# Altium schematic symbol library THD 4000 Series Components.SchLib: 125 symbols (part 1 of 3)
Pins are listed as number, name and electrical type; pins without a type are passive.

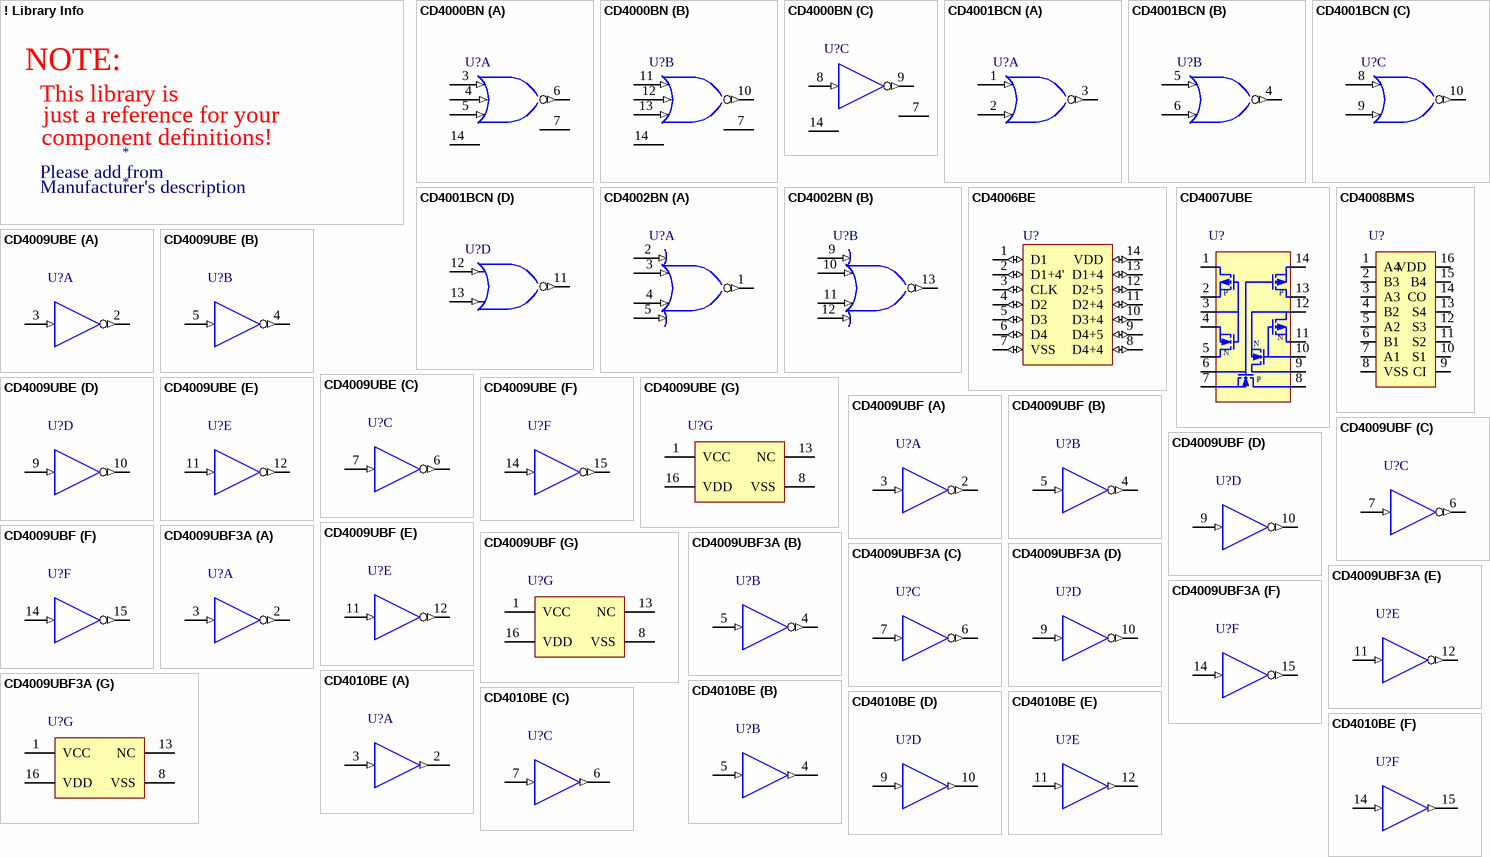
[diagram p0: symbols ! Library Info to CD4010BE]

## ! Library Info
designator *
text: NOTE:; This library is; just a reference for your; component definitions!; Please add from; Manufacturer's description

## CD4000BN
designator U?
Dual 3-Input NOR Gate Plus Inverter Buffered B series Gate, 14-Pin DIP; IC_Technology: C; Published: 17-Jul-2002; LatestRevisionDate: 13-Apr-2006; LatestRevisionNote: IPC-7351 Footprint Added.; DatasheetVersion: Jan-1999; PackageVersion: 2000; PackageReference: M14A; Publisher: Altium Limited; PackageDescription: 14-Pin Small Outline Integrated Circuit 1.27 mm Pitch; Code_IPC: SOIC127P600-14; ComponentLink1Description: Manufacturer Link; ComponentLink1URL: http://www.fairchildsemi.com/; ComponentLink2Description: Datasheet; ComponentLink2URL: http://www.fairchildsemi.com/ds/CD%2FCD4001BC.pdf
footprint DIP-14
pins on every part: 7 GND (power) hidden to GND, 14 VDD (power) hidden to VDD
part A pins: 3 A (in), 4 B (in), 5 C (in), 6 H (out)
part B pins: 10 K (out), 11 D (in), 12 E (in), 13 F (in)
part C pins: 8 G (in), 9 L (out)

## CD4001BCN
designator U?
Quad 2-Input NOR Buffered B series Gate, 14-Pin DIP; IC_Technology: C; Published: 17-Jul-2002; LatestRevisionDate: 29-May-2009; LatestRevisionNote: Component Body Added.; DatasheetVersion: Jan-1999; PackageVersion: 2000; PackageReference: N14A; Publisher: Altium Limited; PackageDescription: DIP, 14-Pin, Row Spacing 7.62 mm, Pitch 2.54 mm; ComponentLink1Description: Manufacturer Link; ComponentLink1URL: http://www.fairchildsemi.com/; ComponentLink2Description: Datasheet; ComponentLink2URL: http://www.fairchildsemi.com/ds/CD%2FCD4001BC.pdf
footprint DIP-14
pins on every part: 7 GND (power) hidden to GND, 14 VDD (power) hidden to VDD
part A pins: 1 A (in), 2 B (in), 3 J (out)
part B pins: 4 J (out), 5 A (in), 6 B (in)
part C pins: 8 A (in), 9 B (in), 10 J (out)
part D pins: 11 J (out), 12 A (in), 13 B (in)

## CD4002BN
designator U?
Dual 4-Input NOR Gate; Note: Pins 6 and 8 are not connected and not drawn.; Published: 8-Jun-2000; LatestRevisionDate: 06-Jun-2005; LatestRevisionNote: Stylized 3D Model Added.; DatasheetVersion: Sep-1988; PackageVersion: Jan-1997; PackageReference: DIP14; Publisher: Altium Limited; PackageDescription: DIP; 14 Leads; Row Spacing 7.62 mm; Pitch 2.54 mm; ComponentLink1Description: Manufacturer Link; ComponentLink1URL: http://www.st.com/; ComponentLink2Description: Datasheet; ComponentLink2URL: http://www.st.com/stonline/products/literature/ds/8099/hcf4002.pdf
footprint DIP-14
pins on every part: 7 GND (power) hidden to GND, 14 VDD (power) hidden to VDD
part A pins: 1 J (out), 2 A (in), 3 B (in), 4 C (in), 5 D (in)
part B pins: 9 E (in), 10 F (in), 11 G (in), 12 H (in), 13 K (out)

## CD4006BE
designator U?  (value not drawn)
CMOS 18-Stage Static Shift Register 14-CDIP -55 to 125; MF: Texas Instruments; MP: CD4006BF3A; Availability: Bad; Price: 12.97 USD; Package: CDIP-14 Texas Instruments; Value: *
footprint DIP-14
pins: 1 D1 (io), 2 D1+4' (io), 3 CLK (io), 4 D2 (io), 5 D3 (io), 6 D4 (io), 7 VSS (io), 8 D4+4 (io), 9 D4+5 (io), 10 D3+4 (io), 11 D2+4 (io), 12 D2+5 (io), 13 D1+4 (io), 14 VDD (io)

## CD4007UBE
designator U?
CMOS Dual Complementary Pair Plus Inverter. DIP-14
footprint DIP-14
pins: 1 3, 2 4, 3, 4 3, 5, 6, 7, 8, 9, 10, 11, 12, 13, 14
text: P; N

## CD4008BMS
designator U?
4-Bit Full Adder
footprint DIP16-300 (DIP, Molded; 16 Leads; Row Spacing 7.62 mm; Pitch 2.54 mm)
pins: 1 A4, 2 B3, 3 A3, 4 B2, 5 A2, 6 B1, 7 A1, 8 VSS, 9 CI, 10 S1, 11 S2, 12 S3, 13 S4, 14 CO, 15 B4, 16 VDD

## CD4009UBE
designator U?
CMOS Hex Inverting Buffer/Converter, N0016A, TUBE; Generic Part Number: CD4009UB; Manufacturer: Texas Instruments; PartNumber: CD4009UBE; VCC(Max)(V): 18; VCC(Min)(V): 3; ICC @ Nom Voltage(Max)(mA): 0.03; Bits(#): 8; F @ Nom Voltage(Max)(Mhz): 12; Rating: Catalog; Technology Family: CD4000; Voltage(Nom)(V): 5; Schmitt Trigger: No; Output Drive (IOL/IOH)(Max)(mA): -1.6/4; tpd @ Nom Voltage(Max)(ns): 140; DatasheetVersion: SCHS020C; PackageReference: N0016A; Output Type: CMOS; Input Type: CMOS; Operating Temperature Range(C): -55 to 125; ComponentLink1Description: Manufacturer URL; ComponentLink1URL: http://www.ti.com/; ComponentLink2Description: Datasheet; ComponentLink2URL: http://www.ti.com/lit/ds/symlink/cd4009ub.pdf; ComponentLink3Description: Package Specification; ComponentLink3URL: http://www.ti.com/lit/ml/mpdi002c/mpdi002c.pdf
footprint DIP16-300 (DIP, Molded; 16 Leads; Row Spacing 7.62 mm; Pitch 2.54 mm)
part A pins: 2 ~{A} (out), 3 A (in)
part B pins: 4 ~{B} (out), 5 B (in)
part C pins: 6 ~{C} (out), 7 C (in)
part D pins: 9 D (in), 10 ~{D} (out)
part E pins: 11 E (in), 12 ~{E} (out)
part F pins: 14 F (in), 15 ~{F} (out)
part G pins: 1 VCC (power), 8 VSS (power), 13 NC, 16 VDD

## CD4009UBF
designator U?
CMOS Hex Inverting Buffer/Converter, J0016A, TUBE; Generic Part Number: CD4009UB-MIL; Manufacturer: Texas Instruments; PartNumber: CD4009UBF; VCC(Max)(V): 18; VCC(Min)(V): 3; ICC @ Nom Voltage(Max)(mA): 0.03; Bits(#): 6; F @ Nom Voltage(Max)(Mhz): 12; Rating: Military; Technology Family: CD4000; Voltage(Nom)(V): 5; Schmitt Trigger: No; Output Drive (IOL/IOH)(Max)(mA): -1.6/4; tpd @ Nom Voltage(Max)(ns): 140; DatasheetVersion: SCHS020C; PackageReference: J0016A; Output Type: CMOS; Input Type: CMOS; Operating Temperature Range(C): -55 to 125; ComponentLink1Description: Manufacturer URL; ComponentLink1URL: http://www.ti.com/; ComponentLink2Description: Datasheet; ComponentLink2URL: http://www.ti.com/lit/ds/symlink/cd4009ub-mil.pdf; ComponentLink3Description: Package Specification; ComponentLink3URL: http://www.ti.com/lit/ml/mcer002d/mcer002d.pdf
footprint DIP16-300 (DIP, Molded; 16 Leads; Row Spacing 7.62 mm; Pitch 2.54 mm)
part A pins: 2 G=~{A} (out), 3 A (in)
part B pins: 4 H=~{B} (out), 5 B (in)
part C pins: 6 I=~{C} (out), 7 C (in)
part D pins: 9 D (in), 10 J=~{D} (out)
part E pins: 11 E (in), 12 K=~{E} (out)
part F pins: 14 F (in), 15 L=~{F} (out)
part G pins: 1 VCC (power), 8 VSS (power), 13 NC, 16 VDD

## CD4009UBF3A
designator U?
CMOS Hex Inverting Buffer/Converter, J0016A, TUBE; Generic Part Number: CD4009UB-MIL; Manufacturer: Texas Instruments; PartNumber: CD4009UBF3A; VCC(Max)(V): 18; VCC(Min)(V): 3; ICC @ Nom Voltage(Max)(mA): 0.03; Bits(#): 6; F @ Nom Voltage(Max)(Mhz): 12; Rating: Military; Technology Family: CD4000; Voltage(Nom)(V): 5; Schmitt Trigger: No; Output Drive (IOL/IOH)(Max)(mA): -1.6/4; tpd @ Nom Voltage(Max)(ns): 140; DatasheetVersion: SCHS020C; PackageReference: J0016A; Output Type: CMOS; Input Type: CMOS; Operating Temperature Range(C): -55 to 125; ComponentLink1Description: Manufacturer URL; ComponentLink1URL: http://www.ti.com/; ComponentLink2Description: Datasheet; ComponentLink2URL: http://www.ti.com/lit/ds/symlink/cd4009ub-mil.pdf; ComponentLink3Description: Package Specification; ComponentLink3URL: http://www.ti.com/lit/ml/mcer002d/mcer002d.pdf
footprint DIP16-300 (DIP, Molded; 16 Leads; Row Spacing 7.62 mm; Pitch 2.54 mm)
part A pins: 2 G=~{A} (out), 3 A (in)
part B pins: 4 H=~{B} (out), 5 B (in)
part C pins: 6 I=~{C} (out), 7 C (in)
part D pins: 9 D (in), 10 J=~{D} (out)
part E pins: 11 E (in), 12 K=~{E} (out)
part F pins: 14 F (in), 15 L=~{F} (out)
part G pins: 1 VCC (power), 8 VSS (power), 13 NC, 16 VDD

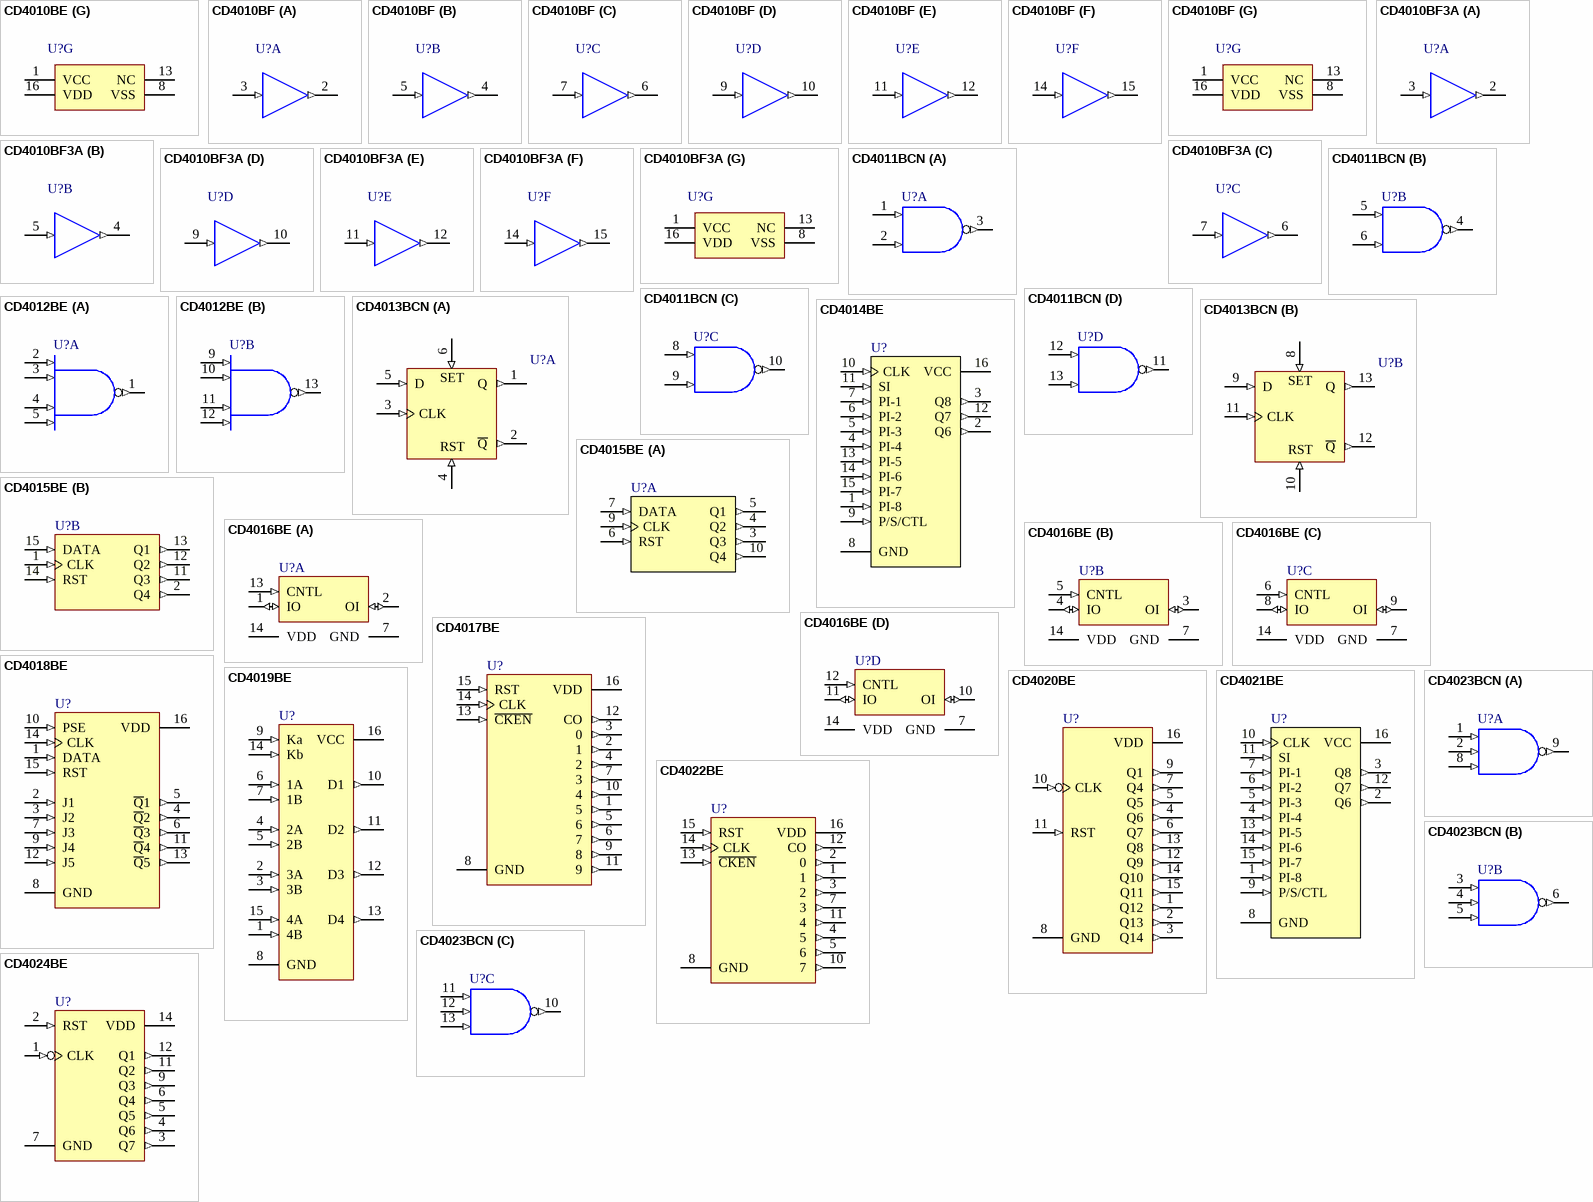
[diagram p1: symbols CD4010BE to CD4024BE]

## CD4010BE
designator U?
CMOS Hex Non-Inverting Buffer/Converter, N0016A, TUBE; Generic Part Number: CD4010B; Manufacturer: Texas Instruments; PartNumber: CD4010BE; VCC(Min)(V): 3; VCC(Max)(V): 18; ICC @ Nom Voltage(Max)(mA): 0.06; Bits(#): 6; F @ Nom Voltage(Max)(Mhz): 8; Rating: Catalog; Voltage(Nom)(V): 10; tpd @ Nom Voltage(Max)(ns): 200; DatasheetVersion: SCHS020C; PackageReference: N0016A; Output Type: CMOS; Input Type: CMOS; Operating Temperature Range(C): -55 to 125; Code_JEDEC: MS-001; ComponentLink1Description: Manufacturer URL; ComponentLink1URL: http://www.ti.com/; ComponentLink2Description: Datasheet; ComponentLink2URL: http://www.ti.com/lit/ds/symlink/cd4010b.pdf; ComponentLink3Description: Package Specification; ComponentLink3URL: http://www.ti.com/lit/ml/mpdi002c/mpdi002c.pdf
footprint DIP16-300 (DIP, Molded; 16 Leads; Row Spacing 7.62 mm; Pitch 2.54 mm)
part A pins: 2 G (out), 3 A (in)
part B pins: 4 H (out), 5 B (in)
part C pins: 6 I (out), 7 C (in)
part D pins: 9 D (in), 10 J (out)
part E pins: 11 E (in), 12 K (out)
part F pins: 14 F (in), 15 L (out)
part G pins: 1 VCC (power), 8 VSS (power), 13 NC, 16 VDD (power)

## CD4010BF
designator U?
CMOS Hex Non-Inverting Buffer/Converter, J0016A, TUBE; Generic Part Number: CD4010B-MIL; Manufacturer: Texas Instruments; PartNumber: CD4010BF; VCC(Min)(V): 3; VCC(Max)(V): 18; ICC @ Nom Voltage(Max)(mA): 0.06; F @ Nom Voltage(Max)(Mhz): 8; Rating: Military; Voltage(Nom)(V): 10; tpd @ Nom Voltage(Max)(ns): 200; DatasheetVersion: SCHS020C; PackageReference: J0016A; Output Type: CMOS; Input Type: CMOS; Operating Temperature Range(C): -55 to 125; ComponentLink1Description: Manufacturer URL; ComponentLink1URL: http://www.ti.com/; ComponentLink2Description: Datasheet; ComponentLink2URL: http://www.ti.com/lit/ds/symlink/cd4010b-mil.pdf; ComponentLink3Description: Package Specification; ComponentLink3URL: http://www.ti.com/lit/ml/mcer002d/mcer002d.pdf
footprint DIP16-300 (DIP, Molded; 16 Leads; Row Spacing 7.62 mm; Pitch 2.54 mm)
part A pins: 2 G (out), 3 A (in)
part B pins: 4 H (out), 5 B (in)
part C pins: 6 I (out), 7 C (in)
part D pins: 9 D (in), 10 J (out)
part E pins: 11 E (in), 12 K (out)
part F pins: 14 F (in), 15 L (out)
part G pins: 1 VCC (power), 8 VSS (power), 13 NC, 16 VDD (power)

## CD4010BF3A
designator U?
CMOS Hex Non-Inverting Buffer/Converter, J0016A, TUBE; Generic Part Number: CD4010B-MIL; Manufacturer: Texas Instruments; PartNumber: CD4010BF3A; VCC(Min)(V): 3; VCC(Max)(V): 18; ICC @ Nom Voltage(Max)(mA): 0.06; F @ Nom Voltage(Max)(Mhz): 8; Rating: Military; Voltage(Nom)(V): 10; tpd @ Nom Voltage(Max)(ns): 200; DatasheetVersion: SCHS020C; PackageReference: J0016A; Output Type: CMOS; Input Type: CMOS; Operating Temperature Range(C): -55 to 125; ComponentLink1Description: Manufacturer URL; ComponentLink1URL: http://www.ti.com/; ComponentLink2Description: Datasheet; ComponentLink2URL: http://www.ti.com/lit/ds/symlink/cd4010b-mil.pdf; ComponentLink3Description: Package Specification; ComponentLink3URL: http://www.ti.com/lit/ml/mcer002d/mcer002d.pdf
footprint DIP16-300 (DIP, Molded; 16 Leads; Row Spacing 7.62 mm; Pitch 2.54 mm)
part A pins: 2 G (out), 3 A (in)
part B pins: 4 H (out), 5 B (in)
part C pins: 6 I (out), 7 C (in)
part D pins: 9 D (in), 10 J (out)
part E pins: 11 E (in), 12 K (out)
part F pins: 14 F (in), 15 L (out)
part G pins: 1 VCC (power), 8 VSS (power), 13 NC, 16 VDD (power)

## CD4011BCN
designator U?
Quad 2-Input NAND Buffered B series Gate, 14-Pin PDIP; IC_Technology: C; Published: 17-Jul-2002; LatestRevisionDate: 29-May-2009; LatestRevisionNote: Component Body Added.; DatasheetVersion: Jan-1999; PackageVersion: 2000; PackageReference: N14A; Publisher: Altium Limited; PackageDescription: DIP, 14-Pin, Row Spacing 7.62 mm, Pitch 2.54 mm; ComponentLink1Description: Manufacturer Link; ComponentLink1URL: http://www.fairchildsemi.com/; ComponentLink2Description: Datasheet; ComponentLink2URL: http://www.fairchildsemi.com/ds/CD%2FCD4001BC.pdf
footprint DIP-14
pins on every part: 7 GND (power) hidden to GND, 14 VDD (power) hidden to VDD
part A pins: 1 A (in), 2 B (in), 3 J (out)
part B pins: 4 J (out), 5 A (in), 6 B (in)
part C pins: 8 A (in), 9 F (in), 10 J (out)
part D pins: 11 J (out), 12 A (in), 13 B (in)

## CD4012BE
designator U?
Dual 4-Input NAND Gate, 14-Pin SOP, Commerical Grade; IC_Technology: AC; Note: Pins 3 and 11 are NC & not drawn.; Published: 17-Jul-2002; LatestRevisionDate: 13-Apr-2006; LatestRevisionNote: IPC-7351 Footprint Added.; DatasheetVersion: Nov-1999; PackageVersion: 2000; PackageReference: M14D; Publisher: Altium Limited; PackageDescription: 14-Pin Small Outline Package 1.27 mm Pitch; ComponentLink1Description: Manufacturer Link; ComponentLink1URL: http://www.fairchildsemi.com/; ComponentLink2Description: Datasheet; ComponentLink2URL: http://www.fairchildsemi.com/ds/74%2F74AC20.pdf
footprint DIP-14
pins on every part: 7 GND (power) hidden to GND, 14 VDD (power) hidden to VCC
part A pins: 1 ~{O} (out), 2 A (in), 3 B (in), 4 C (in), 5 D (in)
part B pins: 9 A (in), 10 B (in), 11 C (in), 12 D (in), 13 ~{O} (out)

## CD4013BCN
designator U?
Dual D-Type Flip-Flop; Published: 17-Jul-2002; LatestRevisionDate: 29-May-2009; LatestRevisionNote: Component Body Added.; DatasheetVersion: Jan-1999; PackageVersion: 2000; PackageReference: N14A; Publisher: Altium Limited; PackageDescription: DIP, 14-Pin, Row Spacing 7.62 mm, Pitch 2.54 mm; ComponentLink1Description: Manufacturer Link; ComponentLink1URL: http://www.fairchildsemi.com/
footprint DIP-14
pins on every part: 7 GND (power) hidden to GND, 14 VDD (power) hidden to VDD
part A pins: 1 Q (out), 2 ~{Q} (out), 3 CLK (in), 4 RST (in), 5 D (in), 6 S (in)
part B pins: 8 S (in), 9 D (in), 10 RST (in), 11 CLK (in), 12 ~{Q} (out), 13 Q (out)
part A text: SET
part B text: SET

## CD4014BE
designator U?
CMOS 8-Stage Static Shift Register. Synchronous Parallel or Serial Input/Serial Output; Published: 8-Jun-2000; LatestRevisionDate: 06-Jun-2005; LatestRevisionNote: Stylized 3D Model Added.; DatasheetVersion: Nov-1996; PackageVersion: Apr-1996; PackageReference: DIP16; Publisher: Altium Limited; PackageDescription: DIP; 16 Leads; Row Spacing 7.62 mm; Pitch 2.54 mm; ComponentLink1Description: Manufacturer Link; ComponentLink1URL: http://www.st.com/
footprint DIP16-300 (DIP, Molded; 16 Leads; Row Spacing 7.62 mm; Pitch 2.54 mm)
pins: 1 PI-8 (in), 2 Q6 (out), 3 Q8 (out), 4 PI-4 (in), 5 PI-3 (in), 6 PI-2 (in), 7 PI-1 (in), 8 GND (power), 9 P/S/CTL (in), 10 CLK (in), 11 SI (in), 12 Q7 (out), 13 PI-5 (in), 14 PI-6 (in), 15 PI-7 (in), 16 VCC (power)

## CD4015BE
designator U?
Dual 4-Stage Static Shift Register with Serial Input/Parallel Output; Published: 8-Jun-2000; LatestRevisionDate: 06-Jun-2005; LatestRevisionNote: Stylized 3D Model Added.; DatasheetVersion: Jun-1989; PackageVersion: Apr-1996; PackageReference: DIP16; Publisher: Altium Limited; PackageDescription: DIP; 16 Leads; Row Spacing 7.62 mm; Pitch 2.54 mm; ComponentLink1Description: Manufacturer Link; ComponentLink1URL: http://www.st.com/
footprint DIP16-300 (DIP, Molded; 16 Leads; Row Spacing 7.62 mm; Pitch 2.54 mm)
pins on every part: 8 GND (power) hidden to GND, 16 VCC (power) hidden to VCC
part A pins: 3 Q3 (out), 4 Q2 (out), 5 Q1 (out), 6 RST (in), 7 DATA (in), 9 CLK (in), 10 Q4 (out)
part B pins: 1 CLK (in), 2 Q4 (out), 11 Q3 (out), 12 Q2 (out), 13 Q1 (out), 14 RST (in), 15 DATA (in)

## CD4016BE
designator U?
Quad Bilateral Switch; Published: 8-Jun-2000; LatestRevisionDate: 04-Mar-2005; LatestRevisionNote: Stylized 3D Model Added.; DatasheetVersion: Jun-1989; PackageVersion: Jan-1997; PackageReference: DIP14; Publisher: Altium Limited; PackageDescription: DIP; 14 Leads; Row Spacing 7.62 mm; Pitch 2.54 mm; ComponentLink1Description: Manufacturer Link; ComponentLink1URL: http://www.st.com/; ComponentLink2Description: Datasheet; ComponentLink2URL: http://www.st.com/stonline/products/literature/ds/2027/hcf4016.pdf
footprint DIP-14
pins on every part: 7 GND (power) hidden to GND, 14 VDD (power) hidden to VDD
part A pins: 1 IO (io), 2 OI (io), 13 CNTL (in)
part B pins: 3 OI (io), 4 IO (io), 5 CNTL (in)
part C pins: 6 CNTL (in), 8 IO (io), 9 OI (io)
part D pins: 10 OI (io), 11 IO (io), 12 CNTL (in)

## CD4017BE
designator U?
Decade Counter with 10 Decoded Outputs; Published: 8-Jun-2000; LatestRevisionDate: 06-Jun-2005; LatestRevisionNote: Stylized 3D Model Added.; DatasheetVersion: Jun-1989; PackageVersion: Apr-1996; PackageReference: DIP16; Publisher: Altium Limited; PackageDescription: DIP; 16 Leads; Row Spacing 7.62 mm; Pitch 2.54 mm; ComponentLink1Description: Manufacturer Link; ComponentLink1URL: http://www.st.com/
footprint DIP16-300 (DIP, Molded; 16 Leads; Row Spacing 7.62 mm; Pitch 2.54 mm)
pins: 1 5 (out), 2 1 (out), 3 0 (out), 4 2 (out), 5 6 (out), 6 7 (out), 7 3 (out), 8 GND (power), 9 8 (out), 10 4 (out), 11 9 (out), 12 CO (out), 13 ~{CKEN} (in), 14 CLK (in), 15 RST (in), 16 VDD (power)

## CD4018BE
designator U?
Presettable Divide-By-N Counter; Published: 8-Jun-2000; LatestRevisionDate: 06-Jun-2005; LatestRevisionNote: Stylized 3D Model Added.; DatasheetVersion: Jun-1989; PackageVersion: Apr-1996; PackageReference: DIP16; Publisher: Altium Limited; PackageDescription: DIP; 16 Leads; Row Spacing 7.62 mm; Pitch 2.54 mm; ComponentLink1Description: Manufacturer Link; ComponentLink1URL: http://www.st.com/
footprint DIP16-300 (DIP, Molded; 16 Leads; Row Spacing 7.62 mm; Pitch 2.54 mm)
pins: 1 DATA (in), 2 J1 (in), 3 J2 (in), 4 ~{Q}2 (out), 5 ~{Q}1 (out), 6 ~{Q}3 (out), 7 J3 (in), 8 GND (power), 9 J4 (in), 10 PSE (in), 11 ~{Q}4 (out), 12 J5 (in), 13 ~{Q}5 (out), 14 CLK (in), 15 RST (in), 16 VDD (power)

## CD4019BE
designator U?
Quad AND/OR Select Gate; Published: 8-Jun-2000; LatestRevisionDate: 06-Jun-2005; LatestRevisionNote: Stylized 3D Model Added.; DatasheetVersion: Jun-1989; PackageVersion: Apr-1996; PackageReference: DIP16; Publisher: Altium Limited; PackageDescription: DIP; 16 Leads; Row Spacing 7.62 mm; Pitch 2.54 mm; ComponentLink1Description: Manufacturer Link; ComponentLink1URL: http://www.st.com/
footprint DIP16-300 (DIP, Molded; 16 Leads; Row Spacing 7.62 mm; Pitch 2.54 mm)
pins: 1 4B (in), 2 3A (in), 3 3B (in), 4 2A (in), 5 2B (in), 6 1A (in), 7 1B (in), 8 GND (power), 9 Ka (in), 10 D1 (out), 11 D2 (out), 12 D3 (out), 13 D4 (out), 14 Kb (in), 15 4A (in), 16 VCC (power)

## CD4020BE
designator U?
14-Stage Ripple-Carry Binary Counter/Divider; Published: 8-Jun-2000; LatestRevisionDate: 06-Jun-2005; LatestRevisionNote: Stylized 3D Model Added.; DatasheetVersion: Mar-1989; PackageVersion: Apr-1996; PackageReference: DIP16; Publisher: Altium Limited; PackageDescription: DIP; 16 Leads; Row Spacing 7.62 mm; Pitch 2.54 mm; ComponentLink1Description: Manufacturer Link; ComponentLink1URL: http://www.st.com/
footprint DIP16-300 (DIP, Molded; 16 Leads; Row Spacing 7.62 mm; Pitch 2.54 mm)
pins: 1 Q12 (out), 2 Q13 (out), 3 Q14 (out), 4 Q6 (out), 5 Q5 (out), 6 Q7 (out), 7 Q4 (out), 8 GND (power), 9 Q1 (out), 10 CLK (in), 11 RST (in), 12 Q9 (out), 13 Q8 (out), 14 Q10 (out), 15 Q11 (out), 16 VDD (power)

## CD4021BE
designator U?
CMOS 8-Stage Static Shift Register. Asynchronous Parallel or Synchronous Serial Input/Serial Output; Published: 8-Jun-2000; LatestRevisionDate: 06-Jun-2005; LatestRevisionNote: Stylized 3D Model Added.; DatasheetVersion: Nov-1996; PackageVersion: Apr-1996; PackageReference: DIP16; Publisher: Altium Limited; PackageDescription: DIP; 16 Leads; Row Spacing 7.62 mm; Pitch 2.54 mm; ComponentLink1Description: Manufacturer Link; ComponentLink1URL: http://www.st.com/
footprint DIP16-300 (DIP, Molded; 16 Leads; Row Spacing 7.62 mm; Pitch 2.54 mm)
pins: 1 PI-8 (in), 2 Q6 (out), 3 Q8 (out), 4 PI-4 (in), 5 PI-3 (in), 6 PI-2 (in), 7 PI-1 (in), 8 GND (power), 9 P/S/CTL (in), 10 CLK (in), 11 SI (in), 12 Q7 (out), 13 PI-5 (in), 14 PI-6 (in), 15 PI-7 (in), 16 VCC (power)

## CD4022BE
designator U?
Divide by 8 Counter/Divider with 8 Decoded Outputs; Note: Pins 6 and 9 are not connected and not drawn.; Published: 8-Jun-2000; LatestRevisionDate: 06-Jun-2005; LatestRevisionNote: Stylized 3D Model Added.; DatasheetVersion: Jun-1989; PackageVersion: Apr-1996; PackageReference: DIP16; Publisher: Altium Limited; PackageDescription: DIP; 16 Leads; Row Spacing 7.62 mm; Pitch 2.54 mm; ComponentLink1Description: Manufacturer Link; ComponentLink1URL: http://www.st.com/
footprint DIP16-300 (DIP, Molded; 16 Leads; Row Spacing 7.62 mm; Pitch 2.54 mm)
pins: 1 (out), 2 0 (out), 3 2 (out), 4 5 (out), 5 6 (out), 7 3 (out), 8 GND (power), 10 7 (out), 11 4 (out), 12 CO (out), 13 ~{CKEN} (in), 14 CLK (in), 15 RST (in), 16 VDD (power)

## CD4023BCN
designator U?
Buffered Triple 3-Input NAND Gate, 14-Pin PDIP; IC_Technology: C; Published: 17-Jul-2002; LatestRevisionDate: 29-May-2009; LatestRevisionNote: Component Body Added.; DatasheetVersion: Jun-1999; PackageVersion: 2000; PackageReference: N14A; Publisher: Altium Limited; PackageDescription: DIP, 14-Pin, Row Spacing 7.62 mm, Pitch 2.54 mm; ComponentLink1Description: Manufacturer Link; ComponentLink1URL: http://www.fairchildsemi.com/; ComponentLink2Description: Datasheet; ComponentLink2URL: http://www.fairchildsemi.com/ds/CD%2FCD4023BC.pdf
footprint DIP-14
pins on every part: 7 GND (power) hidden to GND, 14 VDD (power) hidden to VDD
part A pins: 1 A (in), 2 B (in), 8 C (in), 9 J (out)
part B pins: 3 A (in), 4 B (in), 5 C (in), 6 J (out)
part C pins: 10 J (out), 11 A (in), 12 B (in), 13 C (in)

## CD4024BE
designator U?
7-Stage Ripple-Carry Binary Counter/Divider; Note: Pins 8, 10 and 13 are not connected and not drawn.; Published: 8-Jun-2000; LatestRevisionDate: 06-Jun-2005; LatestRevisionNote: Stylized 3D Model Added.; DatasheetVersion: Mar-1989; PackageVersion: Apr-1996; PackageReference: DIP16; Publisher: Altium Limited; PackageDescription: DIP; 16 Leads; Row Spacing 7.62 mm; Pitch 2.54 mm; ComponentLink1Description: Manufacturer Link; ComponentLink1URL: http://www.st.com/
footprint DIP-14
pins: 1 CLK (in), 2 RST (in), 3 Q7 (out), 4 Q6 (out), 5 Q5 (out), 6 Q4 (out), 7 GND (power), 9 Q3 (out), 11 Q2 (out), 12 Q1 (out), 14 VDD (power)

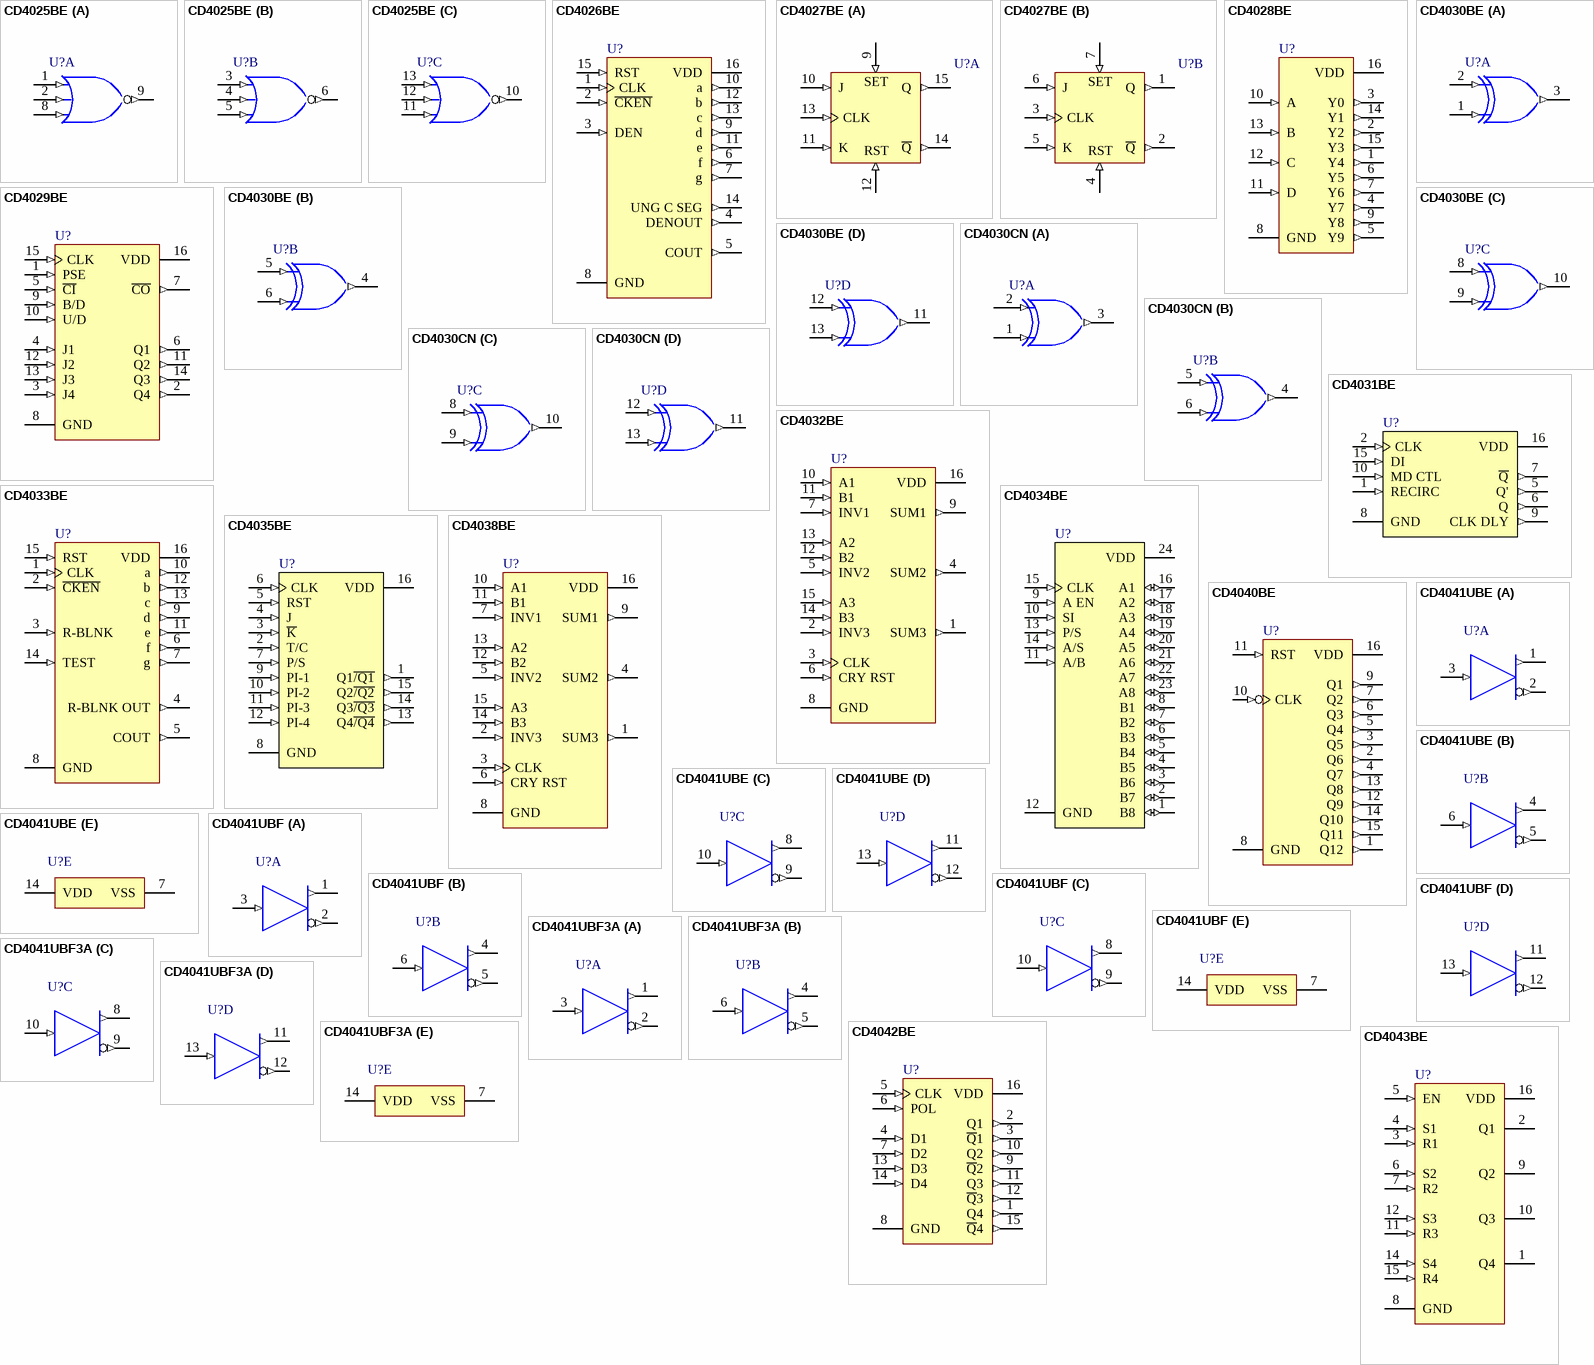
[diagram p2: symbols CD4025BE to CD4043BE]

## CD4025BE
designator U?
Triple 3-Input NOR Gate; Published: 8-Jun-2000; LatestRevisionDate: 06-Jun-2005; LatestRevisionNote: Stylized 3D Model Added.; DatasheetVersion: Sep-1988; PackageReference: CDIP14; Publisher: Altium Limited; PackageDescription: DIP; 14 Leads; Row Spacing 7.62 mm; Pitch 2.54 mm; ComponentLink1Description: Manufacturer Link; ComponentLink1URL: http://www.st.com/
footprint DIP-14
pins on every part: 7 GND (power) hidden to GND, 14 VDD (power) hidden to VDD
part A pins: 1 A (in), 2 B (in), 8 C (in), 9 J (out)
part B pins: 3 D (in), 4 E (in), 5 F (in), 6 K (out)
part C pins: 10 L (out), 11 I (in), 12 H (in), 13 G (in)

## CD4026BE
designator U?
Decade Counters/Dividers with Decoded 7-Segment Outputs And Display; Published: 8-Jun-2000; LatestRevisionDate: 06-Jun-2005; LatestRevisionNote: Stylized 3D Model Added.; DatasheetVersion: Jun-1989; PackageVersion: Apr-1996; PackageReference: DIP16; Publisher: Altium Limited; PackageDescription: DIP; 16 Leads; Row Spacing 7.62 mm; Pitch 2.54 mm; ComponentLink1Description: Manufacturer Link; ComponentLink1URL: http://www.st.com/
footprint DIP16-300 (DIP, Molded; 16 Leads; Row Spacing 7.62 mm; Pitch 2.54 mm)
pins: 1 CLK (in), 2 ~{CKEN} (in), 3 DEN (in), 4 DENOUT (out), 5 COUT (out), 6 f (out), 7 g (out), 8 GND (power), 9 d (out), 10 a (out), 11 e (out), 12 b (out), 13 c (out), 14 UNG C SEG (out), 15 RST (in), 16 VDD (power)

## CD4027BE
designator U?
Dual J-K Master/Slave Flip-Flop with Set and Reset; Published: 17-Jul-2002; LatestRevisionDate: 29-May-2009; LatestRevisionNote: Component Body Added.; DatasheetVersion: Jan-1999; PackageVersion: 2000; PackageReference: N16E; Publisher: Altium Limited; PackageDescription: DIP, 16-Pin, Row Spacing 7.62 mm, Pitch 2.54 mm; ComponentLink1Description: Manufacturer Link; ComponentLink1URL: http://www.fairchildsemi.com/; ComponentLink2Description: Datasheet; ComponentLink2URL: http://www.fairchildsemi.com/ds/CD%2FCD4027BC.pdf
footprint DIP16-300 (DIP, Molded; 16 Leads; Row Spacing 7.62 mm; Pitch 2.54 mm)
pins on every part: 8 GND (power) hidden to GND, 16 VDD (power) hidden to VDD
part A pins: 9 S (in), 10 J (in), 11 K (in), 12 RST (in), 13 CLK (in), 14 ~{Q} (out), 15 Q (out)
part B pins: 1 Q (out), 2 ~{Q} (out), 3 CLK (in), 4 RST (in), 5 K (in), 6 J (in), 7 S (in)
part A text: SET
part B text: SET

## CD4028BE
designator U?
BCD-to-Decimal Decoder; Published: 8-Jun-2000; LatestRevisionDate: 06-Jun-2005; LatestRevisionNote: Stylized 3D Model Added.; DatasheetVersion: Jun-1989; PackageVersion: Apr-1996; PackageReference: DIP16; Publisher: Altium Limited; PackageDescription: DIP; 16 Leads; Row Spacing 7.62 mm; Pitch 2.54 mm; ComponentLink1Description: Manufacturer Link; ComponentLink1URL: http://www.st.com/
footprint DIP16-300 (DIP, Molded; 16 Leads; Row Spacing 7.62 mm; Pitch 2.54 mm)
pins: 1 Y4 (out), 2 Y2 (out), 3 Y0 (out), 4 Y7 (out), 5 Y9 (out), 6 Y5 (out), 7 Y6 (out), 8 GND (power), 9 Y8 (out), 10 A (in), 11 D (in), 12 C (in), 13 B (in), 14 Y1 (out), 15 Y3 (out), 16 VDD (power)

## CD4029BE
designator U?
Presettable Up/Down Counter Binary or BCD Decade; Published: 8-Jun-2000; LatestRevisionDate: 06-Jun-2005; LatestRevisionNote: Stylized 3D Model Added.; DatasheetVersion: Sep-1988; PackageVersion: Apr-1996; PackageReference: DIP16; Publisher: Altium Limited; PackageDescription: DIP; 16 Leads; Row Spacing 7.62 mm; Pitch 2.54 mm; ComponentLink1Description: Manufacturer Link; ComponentLink1URL: http://www.st.com/
footprint DIP16-300 (DIP, Molded; 16 Leads; Row Spacing 7.62 mm; Pitch 2.54 mm)
pins: 1 PSE (in), 2 Q4 (out), 3 J4 (in), 4 J1 (in), 5 ~{CI} (in), 6 Q1 (out), 7 ~{CO} (out), 8 GND (power), 9 B/D (in), 10 U/D (in), 11 Q2 (out), 12 J2 (in), 13 J3 (in), 14 Q3 (out), 15 CLK (in), 16 VDD (power)

## CD4030BE
designator U?
Quad Exclusive OR Gate; Published: 8-Jun-2000; LatestRevisionDate: 06-Jun-2005; LatestRevisionNote: Stylized 3D Model Added.; DatasheetVersion: Nov-1996; PackageReference: CDIP14; Publisher: Altium Limited; PackageDescription: DIP; 14 Leads; Row Spacing 7.62 mm; Pitch 2.54 mm; ComponentLink1Description: Manufacturer Link; ComponentLink1URL: http://www.st.com/
footprint DIP-14
pins on every part: 7 GND (power) hidden to GND, 14 VDD (power) hidden to VDD
part A pins: 1 B (in), 2 A (in), 3 J (out)
part B pins: 4 K (out), 5 C (in), 6 D (in)
part C pins: 8 E (in), 9 F (in), 10 L (out)
part D pins: 11 M (out), 12 G (in), 13 H (in)

## CD4030CN
designator U?
Quad Exclusive OR Gate, 14-Pin PDIP; IC_Technology: C; Published: 17-Jul-2002; LatestRevisionDate: 29-May-2009; LatestRevisionNote: Component Body Added.; DatasheetVersion: Jan-1999; PackageVersion: 2000; PackageReference: N14A; Publisher: Altium Limited; PackageDescription: DIP, 14-Pin, Row Spacing 7.62 mm, Pitch 2.54 mm; ComponentLink1Description: Manufacturer Link; ComponentLink1URL: http://www.fairchildsemi.com/
footprint DIP-14
pins on every part: 7 GND (power) hidden to GND, 14 VDD (power) hidden to VDD
part A pins: 1 B (in), 2 A (in), 3 J (out)
part B pins: 4 J (out), 5 A (in), 6 B (in)
part C pins: 8 A (in), 9 B (in), 10 J (out)
part D pins: 11 J (out), 12 A (in), 13 B (in)

## CD4031BE
designator U?
64-Stage Static Shift Register; Note: Pins 3, 4, 11, 12, 13 and 14 are not connected and not drawn.; Published: 8-Jun-2000; LatestRevisionDate: 06-Jun-2005; LatestRevisionNote: Stylized 3D Model Added.; DatasheetVersion: Jun-1989; PackageVersion: Apr-1996; PackageReference: DIP16; Publisher: Altium Limited; PackageDescription: DIP; 16 Leads; Row Spacing 7.62 mm; Pitch 2.54 mm; ComponentLink1Description: Manufacturer Link; ComponentLink1URL: http://www.st.com/
footprint DIP16-300 (DIP, Molded; 16 Leads; Row Spacing 7.62 mm; Pitch 2.54 mm)
pins: 1 RECIRC (in), 2 CLK (in), 5 Q' (out), 6 Q (out), 7 ~{Q} (out), 8 GND (power), 9 CLK DLY (out), 10 MD CTL (in), 15 DI (in), 16 VDD (power)

## CD4032BE
designator U?
Triple Serial Adders. Positive Logic; Published: 8-Jun-2000; LatestRevisionDate: 06-Jun-2005; LatestRevisionNote: Stylized 3D Model Added.; DatasheetVersion: Jun-1989; PackageVersion: Apr-1996; PackageReference: DIP16; Publisher: Altium Limited; PackageDescription: DIP; 16 Leads; Row Spacing 7.62 mm; Pitch 2.54 mm; ComponentLink1Description: Manufacturer Link; ComponentLink1URL: http://www.st.com/
footprint DIP16-300 (DIP, Molded; 16 Leads; Row Spacing 7.62 mm; Pitch 2.54 mm)
pins: 1 SUM3 (out), 2 INV3 (in), 3 CLK (in), 4 SUM2 (out), 5 INV2 (in), 6 CRY RST (in), 7 INV1 (in), 8 GND (power), 9 SUM1 (out), 10 A1 (in), 11 B1 (in), 12 B2 (in), 13 A2 (in), 14 B3 (in), 15 A3 (in), 16 VDD (power)

## CD4033BE
designator U?
Decade Counters/Dividers with Decoded 7-Segment Outputs And Display; Published: 8-Jun-2000; LatestRevisionDate: 06-Jun-2005; LatestRevisionNote: Stylized 3D Model Added.; DatasheetVersion: Jun-1989; PackageVersion: Apr-1996; PackageReference: DIP16; Publisher: Altium Limited; PackageDescription: DIP; 16 Leads; Row Spacing 7.62 mm; Pitch 2.54 mm; ComponentLink1Description: Manufacturer Link; ComponentLink1URL: http://www.st.com/
footprint DIP16-300 (DIP, Molded; 16 Leads; Row Spacing 7.62 mm; Pitch 2.54 mm)
pins: 1 CLK (in), 2 ~{CKEN} (in), 3 R-BLNK (in), 4 R-BLNK OUT (out), 5 COUT (out), 6 f (out), 7 g (out), 8 GND (power), 9 d (out), 10 a (out), 11 e (out), 12 b (out), 13 c (out), 14 TEST (in), 15 RST (in), 16 VDD (power)

## CD4034BE
designator U?
8-Stage Static Bidirectional Parallel/Serial Input/Output Bus Register; Published: 8-Jun-2000; LatestRevisionDate: 06-Jun-2005; LatestRevisionNote: Stylized 3D Model Added.; DatasheetVersion: Jun-1989; PackageVersion: Sep-1988; PackageReference: CDIP24; Publisher: Altium Limited; PackageDescription: DIP; 24 Leads; Row Spacing 15.24 mm; Pitch 2.54 mm; ComponentLink1Description: Manufacturer Link; ComponentLink1URL: http://www.st.com/
footprint DIP-24-600 (DIP; 24 Leads; Row Spacing 15.24 mm; Pitch 2.54 mm)
pins: 1 B8 (io), 2 B7 (io), 3 B6 (io), 4 B5 (io), 5 B4 (io), 6 B3 (io), 7 B2 (io), 8 B1 (io), 9 A EN (in), 10 SI (in), 11 A/B (in), 12 GND (power), 13 P/S (in), 14 A/S (in), 15 CLK (in), 16 A1 (io), 17 A2 (io), 18 A3 (io), 19 A4 (io), 20 A5 (io), 21 A6 (io), 22 A7 (io), 23 A8 (io), 24 VDD (power)

## CD4035BE
designator U?
4-Stage Parallel In/Parallel Out Shift Register; Published: 8-Jun-2000; LatestRevisionDate: 06-Jun-2005; LatestRevisionNote: Stylized 3D Model Added.; DatasheetVersion: Jul-1989; PackageVersion: Apr-1996; PackageReference: DIP16; Publisher: Altium Limited; PackageDescription: DIP; 16 Leads; Row Spacing 7.62 mm; Pitch 2.54 mm; ComponentLink1Description: Manufacturer Link; ComponentLink1URL: http://www.st.com/
footprint DIP16-300 (DIP, Molded; 16 Leads; Row Spacing 7.62 mm; Pitch 2.54 mm)
pins: 1 Q1~{/Q1} (out), 2 T/C (in), 3 ~{K} (in), 4 J (in), 5 RST (in), 6 CLK (in), 7 P/S (in), 8 GND (power), 9 PI-1 (in), 10 PI-2 (in), 11 PI-3 (in), 12 PI-4 (in), 13 Q4~{/Q4} (out), 14 Q3~{/Q3} (out), 15 Q2~{/Q2} (out), 16 VDD (power)

## CD4038BE
designator U?
Triple Serial Adders. Negative Logic; Published: 8-Jun-2000; LatestRevisionDate: 06-Jun-2005; LatestRevisionNote: Stylized 3D Model Added.; DatasheetVersion: Jun-1989; PackageVersion: Apr-1996; PackageReference: DIP16; Publisher: Altium Limited; PackageDescription: DIP; 16 Leads; Row Spacing 7.62 mm; Pitch 2.54 mm; ComponentLink1Description: Manufacturer Link; ComponentLink1URL: http://www.st.com/
footprint DIP16-300 (DIP, Molded; 16 Leads; Row Spacing 7.62 mm; Pitch 2.54 mm)
pins: 1 SUM3 (out), 2 INV3 (in), 3 CLK (in), 4 SUM2 (out), 5 INV2 (in), 6 CRY RST (in), 7 INV1 (in), 8 GND (power), 9 SUM1 (out), 10 A1 (in), 11 B1 (in), 12 B2 (in), 13 A2 (in), 14 B3 (in), 15 A3 (in), 16 VDD (power)

## CD4040BE
designator U?
12-Stage Ripple-Carry Binary Counter/Divider; Published: 8-Jun-2000; LatestRevisionDate: 06-Jun-2005; LatestRevisionNote: Stylized 3D Model Added.; DatasheetVersion: Mar-1989; PackageVersion: Apr-1996; PackageReference: DIP16; Publisher: Altium Limited; PackageDescription: DIP; 16 Leads; Row Spacing 7.62 mm; Pitch 2.54 mm; ComponentLink1Description: Manufacturer Link; ComponentLink1URL: http://www.st.com/
footprint DIP16-300 (DIP, Molded; 16 Leads; Row Spacing 7.62 mm; Pitch 2.54 mm)
pins: 1 Q12 (out), 2 Q6 (out), 3 Q5 (out), 4 Q7 (out), 5 Q4 (out), 6 Q3 (out), 7 Q2 (out), 8 GND (power), 9 Q1 (out), 10 CLK (in), 11 RST (in), 12 Q9 (out), 13 Q8 (out), 14 Q10 (out), 15 Q11 (out), 16 VDD (power)

## CD4041UBE
designator U?
CMOS Quad True/Complement Buffer, N0014A, TUBE; Generic Part Number: CD4041UB; Manufacturer: Texas Instruments; PartNumber: CD4041UBE; VCC(Min)(V): 3; VCC(Max)(V): 18; ICC @ Nom Voltage(Max)(mA): 0.06; Bits(#): 4; F @ Nom Voltage(Max)(Mhz): 8; Rating: Catalog; Voltage(Nom)(V): 10; tpd @ Nom Voltage(Max)(ns): 120; DatasheetVersion: SCHS039C; PackageReference: N0014A; Output Type: CMOS; Input Type: CMOS; Operating Temperature Range(C): -55 to 125; Code_JEDEC: MS-001; ComponentLink1Description: Manufacturer URL; ComponentLink1URL: http://www.ti.com/; ComponentLink2Description: Datasheet; ComponentLink2URL: http://www.ti.com/lit/ds/symlink/cd4041ub.pdf; ComponentLink3Description: Package Specification; ComponentLink3URL: http://www.ti.com/lit/ml/mpdi002c/mpdi002c.pdf
footprint DIP-14
part A pins: 1 E (out), 2 F (out), 3 A (in)
part B pins: 4 G (out), 5 H (out), 6 B (in)
part C pins: 8 K (out), 9 L (out), 10 C (in)
part D pins: 11 M (out), 12 N (out), 13 D (in)
part E pins: 7 VSS (power), 14 VDD (power)

## CD4041UBF
designator U?
CMOS Quad True/Complement Buffer, J0014A, TUBE; Generic Part Number: CD4041UB-MIL; Manufacturer: Texas Instruments; PartNumber: CD4041UBF; VCC(Min)(V): 3; VCC(Max)(V): 18; ICC @ Nom Voltage(Max)(mA): 0.06; Bits(#): 4; F @ Nom Voltage(Max)(Mhz): 8; Rating: Military; Voltage(Nom)(V): 10; tpd @ Nom Voltage(Max)(ns): 120; DatasheetVersion: SCHS039C; PackageReference: J0014A; Output Type: CMOS; Operating Temperature Range(C): -55 to 125; ComponentLink1Description: Manufacturer URL; ComponentLink1URL: http://www.ti.com/; ComponentLink2Description: Datasheet; ComponentLink2URL: http://www.ti.com/lit/ds/symlink/cd4041ub-mil.pdf; ComponentLink3Description: Package Specification; ComponentLink3URL: http://www.ti.com/lit/ml/mcer002d/mcer002d.pdf
footprint DIP-14
part A pins: 1 E (out), 2 F (out), 3 A (in)
part B pins: 4 G (out), 5 H (out), 6 B (in)
part C pins: 8 K (out), 9 L (out), 10 C (in)
part D pins: 11 M (out), 12 N (out), 13 D (in)
part E pins: 7 VSS (power), 14 VDD (power)

## CD4041UBF3A
designator U?
CMOS Quad True/Complement Buffer, J0014A, TUBE; Generic Part Number: CD4041UB-MIL; Manufacturer: Texas Instruments; PartNumber: CD4041UBF3A; VCC(Min)(V): 3; VCC(Max)(V): 18; ICC @ Nom Voltage(Max)(mA): 0.06; Bits(#): 4; F @ Nom Voltage(Max)(Mhz): 8; Rating: Military; Voltage(Nom)(V): 10; tpd @ Nom Voltage(Max)(ns): 120; DatasheetVersion: SCHS039C; PackageReference: J0014A; Output Type: CMOS; Operating Temperature Range(C): -55 to 125; ComponentLink1Description: Manufacturer URL; ComponentLink1URL: http://www.ti.com/; ComponentLink2Description: Datasheet; ComponentLink2URL: http://www.ti.com/lit/ds/symlink/cd4041ub-mil.pdf; ComponentLink3Description: Package Specification; ComponentLink3URL: http://www.ti.com/lit/ml/mcer002d/mcer002d.pdf
footprint DIP-14
part A pins: 1 E (out), 2 F (out), 3 A (in)
part B pins: 4 G (out), 5 H (out), 6 B (in)
part C pins: 8 K (out), 9 L (out), 10 C (in)
part D pins: 11 M (out), 12 N (out), 13 D (in)
part E pins: 7 VSS (power), 14 VDD (power)

## CD4042BE
designator U?
Quad Clocked D-Latch; Published: 8-Jun-2000; LatestRevisionDate: 06-Jun-2005; LatestRevisionNote: Stylized 3D Model Added.; DatasheetVersion: Jun-1989; PackageVersion: Apr-1996; PackageReference: DIP16; Publisher: Altium Limited; PackageDescription: DIP; 16 Leads; Row Spacing 7.62 mm; Pitch 2.54 mm; ComponentLink1Description: Manufacturer Link; ComponentLink1URL: http://www.st.com/
footprint DIP16-300 (DIP, Molded; 16 Leads; Row Spacing 7.62 mm; Pitch 2.54 mm)
pins: 1 Q4 (out), 2 Q1 (out), 3 ~{Q}1 (out), 4 D1 (in), 5 CLK (in), 6 POL (in), 7 D2 (in), 8 GND (power), 9 ~{Q}2 (out), 10 Q2 (out), 11 Q3 (out), 12 ~{Q}3 (out), 13 D3 (in), 14 D4 (in), 15 ~{Q}4 (out), 16 VDD (power)

## CD4043BE
designator U?
Quad 3-State R-S Latch; Note: Pin 13 is not connected and not drawn.; Published: 8-Jun-2000; LatestRevisionDate: 06-Jun-2005; LatestRevisionNote: Stylized 3D Model Added.; DatasheetVersion: Jun-1989; PackageVersion: Apr-1996; PackageReference: DIP16; Publisher: Altium Limited; PackageDescription: DIP; 16 Leads; Row Spacing 7.62 mm; Pitch 2.54 mm; ComponentLink1Description: Manufacturer Link; ComponentLink1URL: http://www.st.com/
footprint DIP16-300 (DIP, Molded; 16 Leads; Row Spacing 7.62 mm; Pitch 2.54 mm)
pins: 1 Q4 (hiz), 2 Q1 (hiz), 3 R1 (in), 4 S1 (in), 5 EN (in), 6 S2 (in), 7 R2 (in), 8 GND (power), 9 Q2 (hiz), 10 Q3 (hiz), 11 R3 (in), 12 S3 (in), 14 S4 (in), 15 R4 (in), 16 VDD (power)

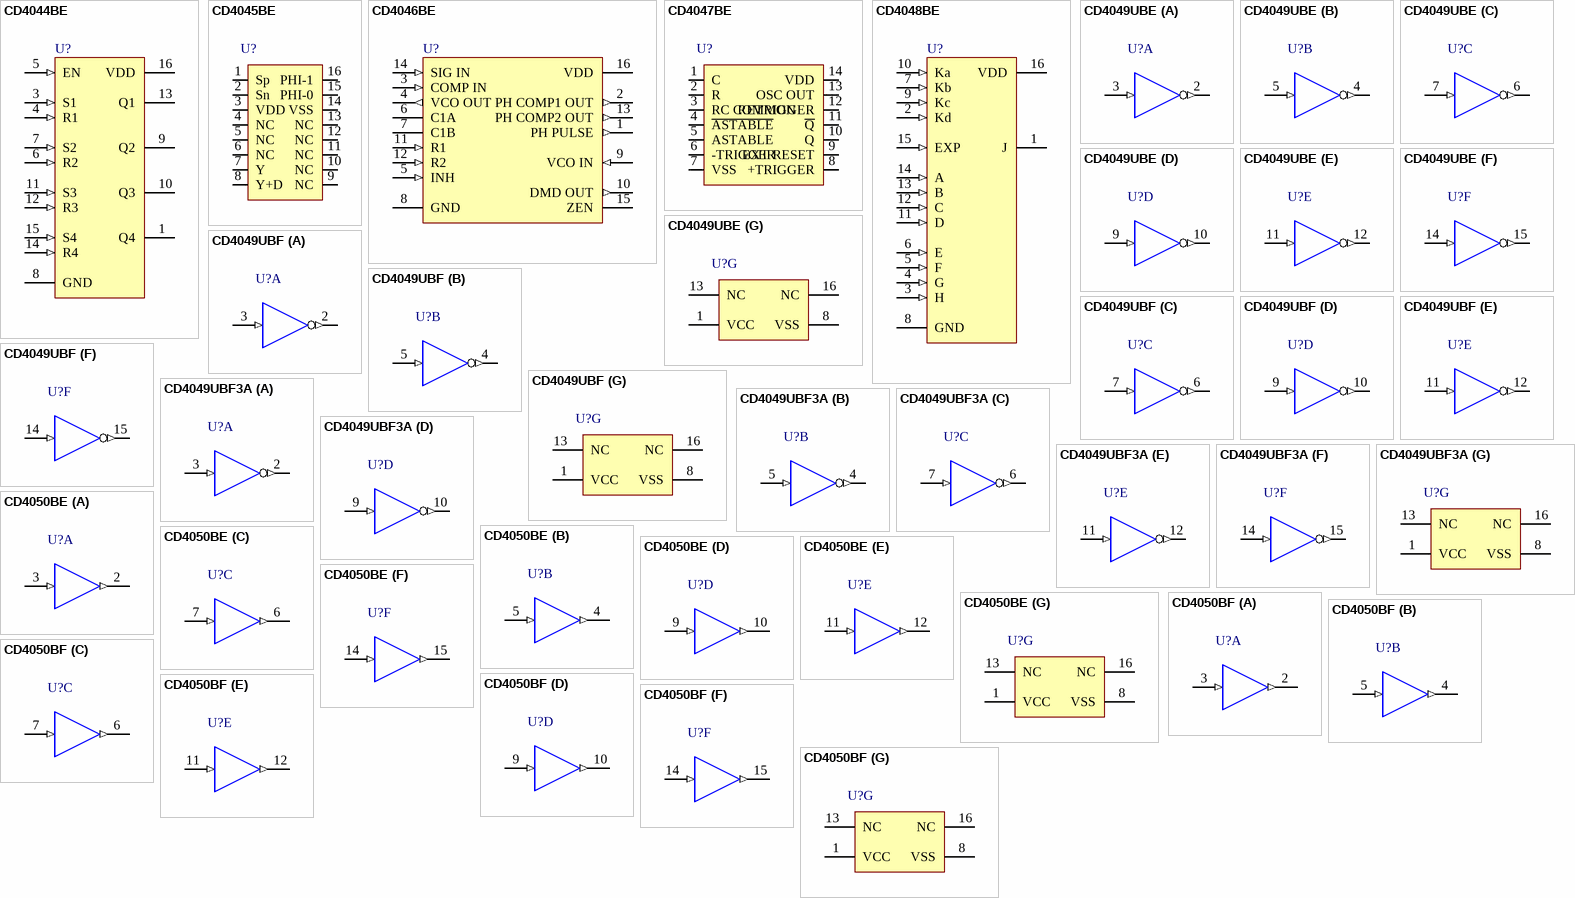
[diagram p3: symbols CD4044BE to CD4050BF]

## CD4044BE
designator U?
Quad 3-State R-S Latch; Note: Pin 2 is not connected and not drawn.; Published: 8-Jun-2000; LatestRevisionDate: 06-Jun-2005; LatestRevisionNote: Stylized 3D Model Added.; DatasheetVersion: Jun-1989; PackageVersion: Apr-1996; PackageReference: DIP16; Publisher: Altium Limited; PackageDescription: DIP; 16 Leads; Row Spacing 7.62 mm; Pitch 2.54 mm; ComponentLink1Description: Manufacturer Link; ComponentLink1URL: http://www.st.com/
footprint DIP16-300 (DIP, Molded; 16 Leads; Row Spacing 7.62 mm; Pitch 2.54 mm)
pins: 1 Q4 (hiz), 3 S1 (in), 4 R1 (in), 5 EN (in), 6 R2 (in), 7 S2 (in), 8 GND (power), 9 Q2 (hiz), 10 Q3 (hiz), 11 S3 (in), 12 R3 (in), 13 Q1 (hiz), 14 R4 (in), 15 S4 (in), 16 VDD (power)

## CD4045BE
designator U?
CMOS 21-Stage Counter. High Voltage Types
footprint DIP16-300 (DIP, Molded; 16 Leads; Row Spacing 7.62 mm; Pitch 2.54 mm)
pins: 1 Sp, 2 Sn, 3 VDD, 4 NC, 5 NC, 6 NC, 7 Y, 8 Y+D, 9 NC, 10 NC, 11 NC, 12 NC, 13 NC, 14 VSS, 15 PHI-0, 16 PHI-1

## CD4046BE
designator U?
Micropower Phase-Locked Loop; Published: 17-Jul-2002; LatestRevisionDate: 13-Apr-2006; LatestRevisionNote: IPC-7351 Footprint Added.; DatasheetVersion: Jan-1999; PackageVersion: 2000; PackageReference: M16A; Publisher: Altium Limited; PackageDescription: 16-Pin Small Outline Integrated Circuit 1.27 mm Pitch; Code_IPC: SOIC127P600-16; ComponentLink1Description: Manufacturer Link; ComponentLink1URL: http://www.fairchildsemi.com/; ComponentLink2Description: Datasheet; ComponentLink2URL: http://www.fairchildsemi.com/ds/CD%2FCD4046BC.pdf
footprint DIP16-300 (DIP, Molded; 16 Leads; Row Spacing 7.62 mm; Pitch 2.54 mm)
pins: 1 PH PULSE (out), 2 PH COMP1 OUT (out), 3 COMP IN (in), 4 VCO OUT (out), 5 INH (in), 6 C1A, 7 C1B, 8 GND (power), 9 VCO IN (in), 10 DMD OUT (out), 11 R1 (in), 12 R2 (in), 13 PH COMP2 OUT (out), 14 SIG IN (in), 15 ZEN, 16 VDD (power)

## CD4047BE
designator U?
Low Power Monostable/Astable Multivibrator
footprint DIP-14
pins: 1 C, 2 R, 3 RC COMMON, 4 ~{ASTABLE}, 5 ASTABLE, 6 -TRIGGER, 7 VSS, 8 +TRIGGER, 9 EXT RESET, 10 Q, 11 ~{Q}, 12 RETRIGGER, 13 OSC OUT, 14 VDD

## CD4048BE
designator U?
Multifunction Expandable 8-Input Gate; Published: 8-Jun-2000; LatestRevisionDate: 06-Jun-2005; LatestRevisionNote: Stylized 3D Model Added.; DatasheetVersion: Oct-1988; PackageVersion: Apr-1996; PackageReference: DIP16; Publisher: Altium Limited; PackageDescription: DIP; 16 Leads; Row Spacing 7.62 mm; Pitch 2.54 mm; ComponentLink1Description: Manufacturer Link; ComponentLink1URL: http://www.st.com/
footprint DIP16-300 (DIP, Molded; 16 Leads; Row Spacing 7.62 mm; Pitch 2.54 mm)
pins: 1 J (hiz), 2 Kd (in), 3 H (in), 4 G (in), 5 F (in), 6 E (in), 7 Kb (in), 8 GND (power), 9 Kc (in), 10 Ka (in), 11 D (in), 12 C (in), 13 B (in), 14 A (in), 15 EXP (in), 16 VDD (power)

## CD4049UBE
designator U?
CMOS Hex Inverting Buffer/Converter, N0016A, TUBE; Generic Part Number: CD4049UB; Manufacturer: Texas Instruments; PartNumber: CD4049UBE; VCC(Max)(V): 18; VCC(Min)(V): 3; ICC @ Nom Voltage(Max)(mA): 0.03; Bits(#): 6; F @ Nom Voltage(Max)(Mhz): 12; Rating: Military; Technology Family: CD4000; Voltage(Nom)(V): 5; Schmitt Trigger: No; Output Drive (IOL/IOH)(Max)(mA): -1.2/5.2; tpd @ Nom Voltage(Max)(ns): 120; DatasheetVersion: SCHS046I; PackageReference: N0016A; Output Type: CMOS; Input Type: CMOS; Operating Temperature Range(C): -55 to 125; ComponentLink1Description: Manufacturer URL; ComponentLink1URL: http://www.ti.com/; ComponentLink2Description: Datasheet; ComponentLink2URL: http://www.ti.com/lit/ds/symlink/cd4049ub.pdf; ComponentLink3Description: Package Specification; ComponentLink3URL: http://www.ti.com/lit/ml/mpdi002c/mpdi002c.pdf
footprint DIP16-300 (DIP, Molded; 16 Leads; Row Spacing 7.62 mm; Pitch 2.54 mm)
part A pins: 2 G=~{A} (out), 3 A (in)
part B pins: 4 H=~{B} (out), 5 B (in)
part C pins: 6 I=~{C} (out), 7 C (in)
part D pins: 9 D (in), 10 J=~{D} (out)
part E pins: 11 E (in), 12 K=~{E} (out)
part F pins: 14 F (in), 15 L=~{F} (out)
part G pins: 1 VCC (power), 8 VSS (power), 13 NC, 16 NC

## CD4049UBF
designator U?
CMOS Hex Inverting Buffer/Converter, J0016A, TUBE; Generic Part Number: CD4049UB-MIL; Manufacturer: Texas Instruments; PartNumber: CD4049UBF; VCC(Max)(V): 18; VCC(Min)(V): 3; ICC @ Nom Voltage(Max)(mA): 0.03; Bits(#): 6; F @ Nom Voltage(Max)(Mhz): 12; Rating: Military; Technology Family: CD4000; Voltage(Nom)(V): 5; Schmitt Trigger: No; Output Drive (IOL/IOH)(Max)(mA): -1.2/5.2; tpd @ Nom Voltage(Max)(ns): 150; DatasheetVersion: SCHS046I; PackageReference: J0016A; Output Type: CMOS; Input Type: CMOS; Operating Temperature Range(C): -55 to 125; ComponentLink1Description: Manufacturer URL; ComponentLink1URL: http://www.ti.com/; ComponentLink2Description: Datasheet; ComponentLink2URL: http://www.ti.com/lit/ds/symlink/cd4049ub-mil.pdf; ComponentLink3Description: Package Specification; ComponentLink3URL: http://www.ti.com/lit/ml/mcer002d/mcer002d.pdf
footprint DIP16-300 (DIP, Molded; 16 Leads; Row Spacing 7.62 mm; Pitch 2.54 mm)
part A pins: 2 G=~{A} (out), 3 A (in)
part B pins: 4 H=~{B} (out), 5 B (in)
part C pins: 6 I=~{C} (out), 7 C (in)
part D pins: 9 D (in), 10 J=~{D} (out)
part E pins: 11 E (in), 12 K=~{E} (out)
part F pins: 14 F (in), 15 L=~{F} (out)
part G pins: 1 VCC (power), 8 VSS (power), 13 NC, 16 NC

## CD4049UBF3A
designator U?
CMOS Hex Inverting Buffer/Converter, J0016A, TUBE; Generic Part Number: CD4049UB-MIL; Manufacturer: Texas Instruments; PartNumber: CD4049UBF3A; VCC(Max)(V): 18; VCC(Min)(V): 3; ICC @ Nom Voltage(Max)(mA): 0.03; Bits(#): 6; F @ Nom Voltage(Max)(Mhz): 12; Rating: Military; Technology Family: CD4000; Voltage(Nom)(V): 5; Schmitt Trigger: No; Output Drive (IOL/IOH)(Max)(mA): -1.2/5.2; tpd @ Nom Voltage(Max)(ns): 150; DatasheetVersion: SCHS046I; PackageReference: J0016A; Output Type: CMOS; Input Type: CMOS; Operating Temperature Range(C): -55 to 125; ComponentLink1Description: Manufacturer URL; ComponentLink1URL: http://www.ti.com/; ComponentLink2Description: Datasheet; ComponentLink2URL: http://www.ti.com/lit/ds/symlink/cd4049ub-mil.pdf; ComponentLink3Description: Package Specification; ComponentLink3URL: http://www.ti.com/lit/ml/mcer002d/mcer002d.pdf
footprint DIP16-300 (DIP, Molded; 16 Leads; Row Spacing 7.62 mm; Pitch 2.54 mm)
part A pins: 2 G=~{A} (out), 3 A (in)
part B pins: 4 H=~{B} (out), 5 B (in)
part C pins: 6 I=~{C} (out), 7 C (in)
part D pins: 9 D (in), 10 J=~{D} (out)
part E pins: 11 E (in), 12 K=~{E} (out)
part F pins: 14 F (in), 15 L=~{F} (out)
part G pins: 1 VCC (power), 8 VSS (power), 13 NC, 16 NC

## CD4050BE
designator U?
CMOS Hex Non-Inverting Buffer/Converter, N0016A, TUBE; Generic Part Number: CD4050B; Manufacturer: Texas Instruments; PartNumber: CD4050BE; VCC(Min)(V): 3; VCC(Max)(V): 18; ICC @ Nom Voltage(Max)(mA): 0.06; Bits(#): 6; F @ Nom Voltage(Max)(Mhz): 8; Rating: Military; Voltage(Nom)(V): 10; tpd @ Nom Voltage(Max)(ns): 140; DatasheetVersion: SCHS046I; PackageReference: N0016A; Output Type: CMOS; Input Type: CMOS; Operating Temperature Range(C): -55 to 125; Code_JEDEC: MS-001; ComponentLink1Description: Manufacturer URL; ComponentLink1URL: http://www.ti.com/; ComponentLink2Description: Datasheet; ComponentLink2URL: http://www.ti.com/lit/ds/symlink/cd4050b.pdf; ComponentLink3Description: Package Specification; ComponentLink3URL: http://www.ti.com/lit/ml/mpdi002c/mpdi002c.pdf
footprint DIP16-300 (DIP, Molded; 16 Leads; Row Spacing 7.62 mm; Pitch 2.54 mm)
part A pins: 2 G (out), 3 A (in)
part B pins: 4 H (out), 5 B (in)
part C pins: 6 I (out), 7 C (in)
part D pins: 9 D (in), 10 J (out)
part E pins: 11 E (in), 12 K (out)
part F pins: 14 F (in), 15 L (out)
part G pins: 1 VCC (power), 8 VSS (power), 13 NC, 16 NC

## CD4050BF
designator U?
CMOS Hex Non-Inverting Buffer/Converter, J0016A, TUBE; Generic Part Number: CD4050B-MIL; Manufacturer: Texas Instruments; PartNumber: CD4050BF; VCC(Min)(V): 3; VCC(Max)(V): 18; ICC @ Nom Voltage(Max)(mA): 0.06; F @ Nom Voltage(Max)(Mhz): 8; Rating: Military; Voltage(Nom)(V): 10; tpd @ Nom Voltage(Max)(ns): 140; DatasheetVersion: SCHS046I; PackageReference: J0016A; Output Type: CMOS; Input Type: CMOS; Operating Temperature Range(C): -55 to 125; ComponentLink1Description: Manufacturer URL; ComponentLink1URL: http://www.ti.com/; ComponentLink2Description: Datasheet; ComponentLink2URL: http://www.ti.com/lit/ds/symlink/cd4050b-mil.pdf; ComponentLink3Description: Package Specification; ComponentLink3URL: http://www.ti.com/lit/ml/mcer002d/mcer002d.pdf
footprint DIP16-300 (DIP, Molded; 16 Leads; Row Spacing 7.62 mm; Pitch 2.54 mm)
part A pins: 2 G (out), 3 A (in)
part B pins: 4 H (out), 5 B (in)
part C pins: 6 I (out), 7 C (in)
part D pins: 9 D (in), 10 J (out)
part E pins: 11 E (in), 12 K (out)
part F pins: 14 F (in), 15 L (out)
part G pins: 1 VCC (power), 8 VSS (power), 13 NC, 16 NC

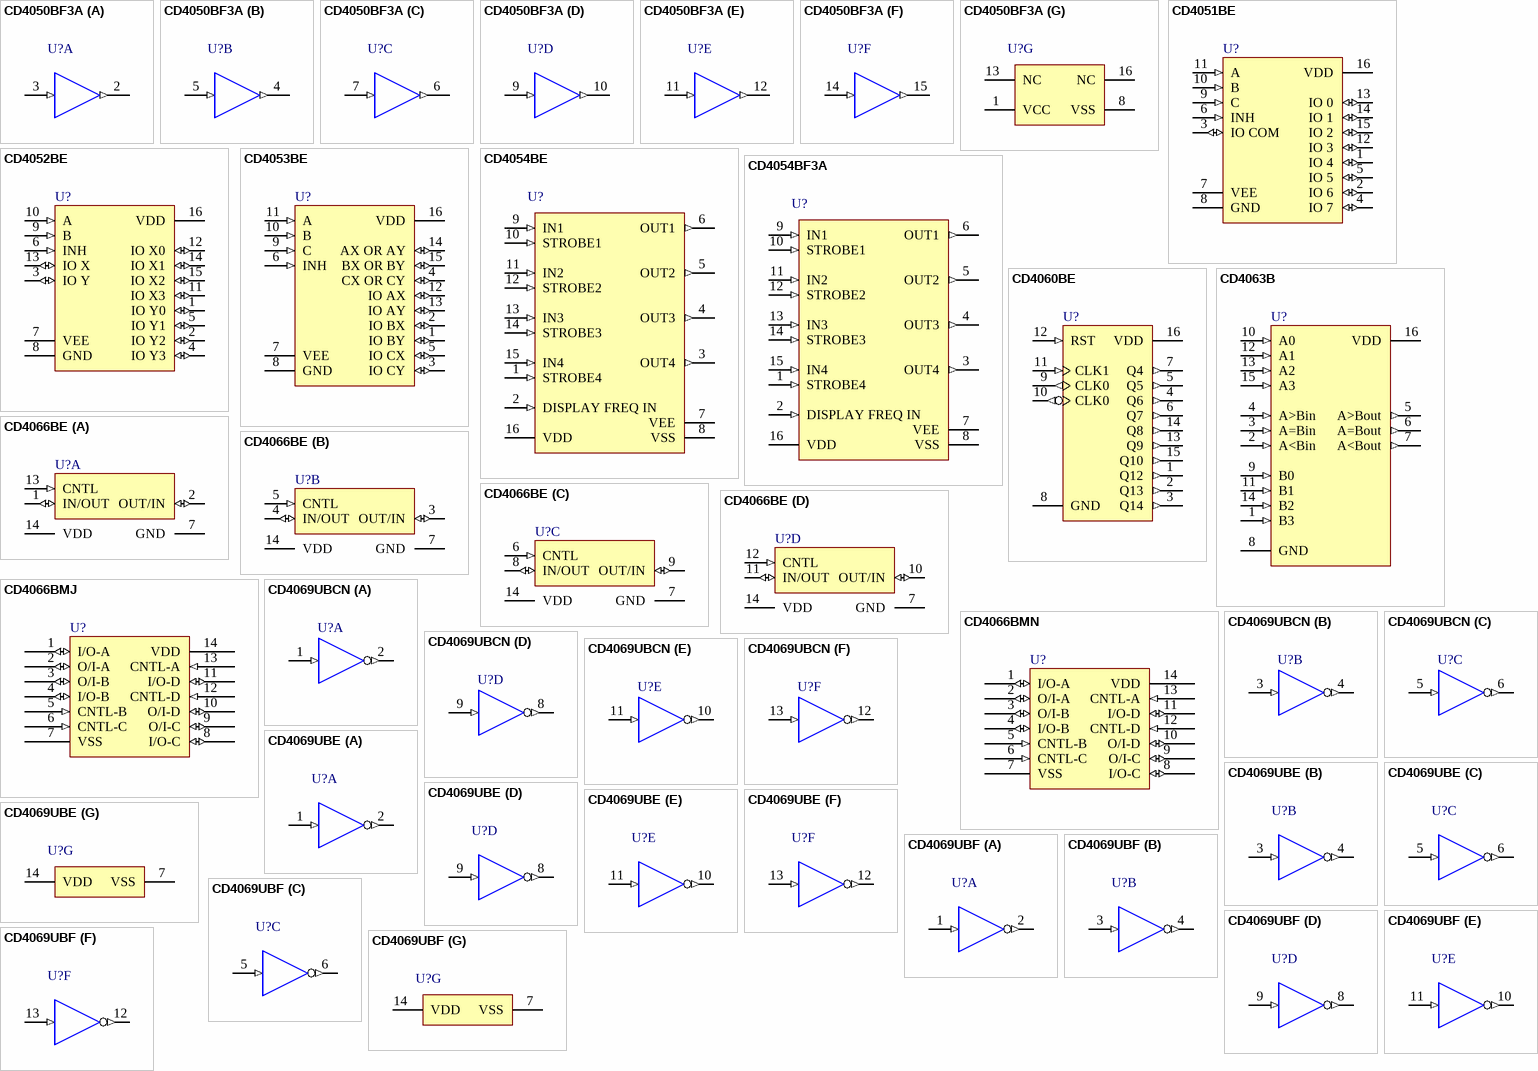
[diagram p4: symbols CD4050BF3A to CD4069UBF]

## CD4050BF3A
designator U?
CMOS Hex Non-Inverting Buffer/Converter, J0016A, TUBE; Generic Part Number: CD4050B-MIL; Manufacturer: Texas Instruments; PartNumber: CD4050BF3A; VCC(Min)(V): 3; VCC(Max)(V): 18; ICC @ Nom Voltage(Max)(mA): 0.06; F @ Nom Voltage(Max)(Mhz): 8; Rating: Military; Voltage(Nom)(V): 10; tpd @ Nom Voltage(Max)(ns): 140; DatasheetVersion: SCHS046I; PackageReference: J0016A; Output Type: CMOS; Input Type: CMOS; Operating Temperature Range(C): -55 to 125; ComponentLink1Description: Manufacturer URL; ComponentLink1URL: http://www.ti.com/; ComponentLink2Description: Datasheet; ComponentLink2URL: http://www.ti.com/lit/ds/symlink/cd4050b-mil.pdf; ComponentLink3Description: Package Specification; ComponentLink3URL: http://www.ti.com/lit/ml/mcer002d/mcer002d.pdf
footprint DIP16-300 (DIP, Molded; 16 Leads; Row Spacing 7.62 mm; Pitch 2.54 mm)
part A pins: 2 G (out), 3 A (in)
part B pins: 4 H (out), 5 B (in)
part C pins: 6 I (out), 7 C (in)
part D pins: 9 D (in), 10 J (out)
part E pins: 11 E (in), 12 K (out)
part F pins: 14 F (in), 15 L (out)
part G pins: 1 VCC (power), 8 VSS (power), 13 NC, 16 NC

## CD4051BE
designator U?
Single 8-Ch. Analog Multiplexer/Demultiplexer; Published: 8-Jun-2000; LatestRevisionDate: 06-Jun-2005; LatestRevisionNote: Stylized 3D Model Added.; DatasheetVersion: Jun-1989; PackageVersion: Apr-1996; PackageReference: DIP16; Publisher: Altium Limited; PackageDescription: DIP; 16 Leads; Row Spacing 7.62 mm; Pitch 2.54 mm; ComponentLink1Description: Manufacturer Link; ComponentLink1URL: http://www.st.com/
footprint DIP16-300 (DIP, Molded; 16 Leads; Row Spacing 7.62 mm; Pitch 2.54 mm)
pins: 1 IO 4 (io), 2 IO 6 (io), 3 IO COM (io), 4 IO 7 (io), 5 IO 5 (io), 6 INH (in), 7 VEE (power), 8 GND (power), 9 C (in), 10 B (in), 11 A (in), 12 IO 3 (io), 13 IO 0 (io), 14 IO 1 (io), 15 IO 2 (io), 16 VDD (power)

## CD4052BE
designator U?
Dual 4-Ch. Analog Multiplexer/Demultiplexer; Published: 8-Jun-2000; LatestRevisionDate: 06-Jun-2005; LatestRevisionNote: Stylized 3D Model Added.; DatasheetVersion: Jun-1989; PackageVersion: Apr-1996; PackageReference: DIP16; Publisher: Altium Limited; PackageDescription: DIP; 16 Leads; Row Spacing 7.62 mm; Pitch 2.54 mm; ComponentLink1Description: Manufacturer Link; ComponentLink1URL: http://www.st.com/
footprint DIP16-300 (DIP, Molded; 16 Leads; Row Spacing 7.62 mm; Pitch 2.54 mm)
pins: 1 IO Y0 (io), 2 IO Y2 (io), 3 IO Y (io), 4 IO Y3 (io), 5 IO Y1 (io), 6 INH (in), 7 VEE (power), 8 GND (power), 9 B (in), 10 A (in), 11 IO X3 (io), 12 IO X0 (io), 13 IO X (io), 14 IO X1 (io), 15 IO X2 (io), 16 VDD (power)

## CD4053BE
designator U?
Triple 2-Ch. Analog Multiplexer/Demultiplexer; Published: 8-Jun-2000; LatestRevisionDate: 06-Jun-2005; LatestRevisionNote: Stylized 3D Model Added.; DatasheetVersion: Jun-1989; PackageVersion: Apr-1996; PackageReference: DIP16; Publisher: Altium Limited; PackageDescription: DIP; 16 Leads; Row Spacing 7.62 mm; Pitch 2.54 mm; ComponentLink1Description: Manufacturer Link; ComponentLink1URL: http://www.st.com/
footprint DIP16-300 (DIP, Molded; 16 Leads; Row Spacing 7.62 mm; Pitch 2.54 mm)
pins: 1 IO BY (io), 2 IO BX (io), 3 IO CY (io), 4 CX OR CY (io), 5 IO CX (io), 6 INH (in), 7 VEE (power), 8 GND (power), 9 C (in), 10 B (in), 11 A (in), 12 IO AX (io), 13 IO AY (io), 14 AX OR AY (io), 15 BX OR BY (io), 16 VDD (power)

## CD4054BE
designator U?
CMOS 4-Segment Liquid-Crystal Display Driver, N0016A, TUBE; Generic Part Number: CD4054B; Manufacturer: Texas Instruments; PartNumber: CD4054BE; VCC(Min)(V): 3; VCC(Max)(V): 18; ICC @ Nom Voltage(Max)(mA): 0.06; Bits(#): 4; F @ Nom Voltage(Max)(Mhz): 8; Rating: Catalog; Voltage(Nom)(V): 10; tpd @ Nom Voltage(Max)(ns): 800; DatasheetVersion: SCHS048C; PackageReference: N0016A; Output Type: CMOS; Input Type: CMOS; Operating Temperature Range(C): -55 to 125; Code_JEDEC: MS-001; ComponentLink1Description: Manufacturer URL; ComponentLink1URL: http://www.ti.com/; ComponentLink2Description: Datasheet; ComponentLink2URL: http://www.ti.com/lit/ds/symlink/cd4054b.pdf; ComponentLink3Description: Package Specification; ComponentLink3URL: http://www.ti.com/lit/ml/mpdi002c/mpdi002c.pdf
footprint DIP16-300 (DIP, Molded; 16 Leads; Row Spacing 7.62 mm; Pitch 2.54 mm)
pins: 1 STROBE4 (in), 2 DISPLAY FREQ IN (in), 3 OUT4 (out), 4 OUT3 (out), 5 OUT2 (out), 6 OUT1 (out), 7 VEE (power), 8 VSS (power), 9 IN1 (in), 10 STROBE1 (in), 11 IN2 (in), 12 STROBE2 (in), 13 IN3 (in), 14 STROBE3 (in), 15 IN4 (in), 16 VDD (power)